# Altium schematic symbol library L293D.SchLib: 1 symbol
Pins are listed as number, name and electrical type; pins without a type are passive.

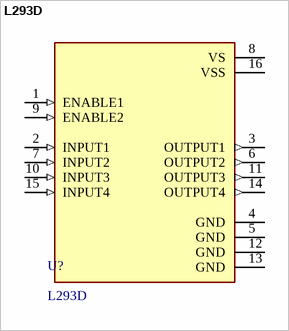
[diagram p0: symbol L293D]

## L293D
designator U?
footprint L293D
pins: 1 ENABLE1 (in), 2 INPUT1 (in), 3 OUTPUT1 (out), 4 GND (power), 5 GND (power), 6 OUTPUT2 (out), 7 INPUT2 (in), 8 VS (power), 9 ENABLE2 (in), 10 INPUT3 (in), 11 OUTPUT3 (out), 12 GND (power), 13 GND (power), 14 OUTPUT4 (out), 15 INPUT4 (in), 16 VSS (power)